# Altium integrated library Integrated_Library1.IntLib: 5 symbols
Pins are listed as number, name and electrical type; pins without a type are passive.

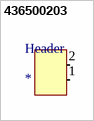
[diagram p0: symbol 436500203]

## 436500203
designator Header
Micro-Fit 3.0 Right-Angle Header, 3.00mm Pitch, Single Row, 2 Circuits, with PCB Press-fit Metal Retention Clip
pins: 1, 2


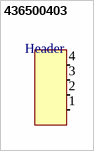
[diagram p1: symbol 436500403]

## 436500403
designator Header
Micro-Fit 3.0 Right-Angle Header, 3.00mm Pitch, Single Row, 4 Circuits, with PCB Press-fit Metal Retention Clip
pins: 1, 2 (power), 3, 4


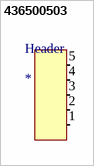
[diagram p2: symbol 436500503]

## 436500503
designator Header
Micro-Fit 3.0 Right-Angle Header, 3.00mm Pitch, Single Row, 5 Circuits, with PCB Press-fit Metal Retention Clip
pins: 1, 2, 3, 4, 5


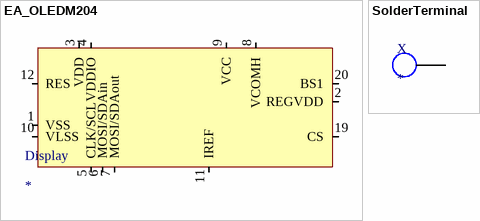
[diagram p3: symbols EA_OLEDM204 to SolderTerminal]

## EA_OLEDM204
designator Display
EA_OLEDM204
pins: 1 VSS "Ground", 2 REGVDD "Internal 3.3V regulator", 3 VDD "3.3V power supply", 4 VDDIO "Logic power supply", 5 CLK/SCL "Serial Clock", 6 MOSI/SDAin "Data in", 7 MOSI/SDAout "Data out", 8 VCOMH "COM signal", 9 VCC "OLED driving voltage", 10 VLSS "Analog Ground", 11 IREF "Segment current reference", 12 RES "Reset (active low)", 19 CS "Chip Select (active low)", 20 BS1

## SolderTerminal
designator X
footprint SolderTerminal
pins: 1 Terminal